# EAGLE library part TPA3107D2 (library Audio-Power-amlifier V.2.0)
15-W STEREO CLASS-D AUDIO POWER AMPLIFIER
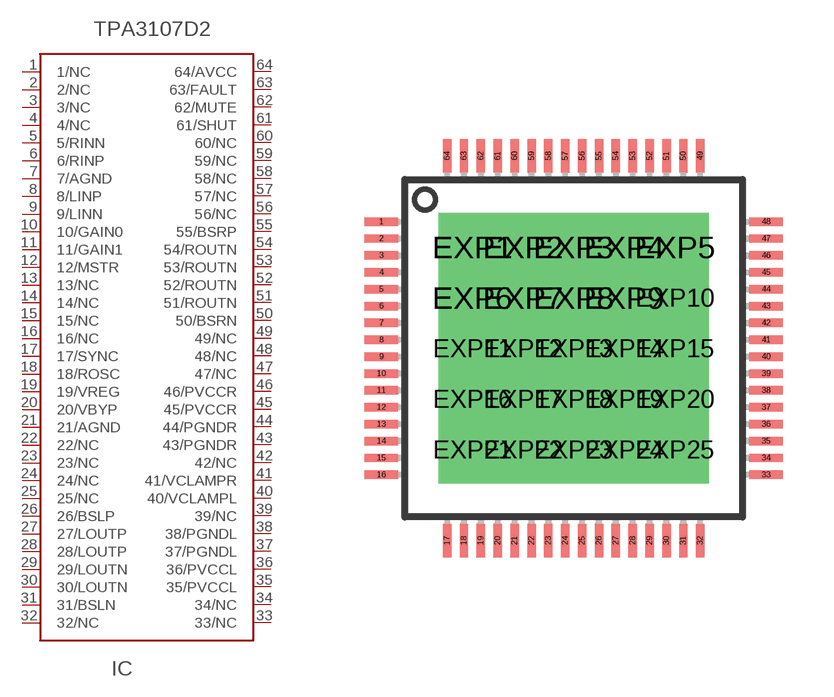
[diagram p177: symbol with the pads of HTQFP-64-PAP; footprint HTQFP-64-PAP]

Designator prefix IC

## TPA3107D2  [HTQFP-64-PAP]
1  1/NC  nc
2  2/NC  nc
3  3/NC  nc
4  4/NC  nc
5  5/RINN  in
6  6/RINP  in
7  7/AGND  pwr
8  8/LINP  in
9  9/LINN  in
10  10/GAIN0  in
11  11/GAIN1  in
12  12/MSTR  in
13  13/NC  nc
14  14/NC  nc
15  15/NC  nc
16  16/NC  nc
17  17/SYNC
18  18/ROSC
19  19/VREG  out
20  20/VBYP  out
21  21/AGND  pwr
22  22/NC  nc
23  23/NC  nc
24  24/NC  nc
25  25/NC  nc
26  26/BSLP
27  27/LOUTP  out
28  28/LOUTP  out
29  29/LOUTN  out
30  30/LOUTN  out
31  31/BSLN
32  32/NC  nc
33  33/NC  nc
34  34/NC  nc
35  35/PVCCL  pwr
36  36/PVCCL  pwr
37  37/PGNDL  pwr
38  38/PGNDL  pwr
39  39/NC  nc
40  40/VCLAMPL  pwr
41  41/VCLAMPR  pwr
42  42/NC  nc
43  43/PGNDR  pwr
44  44/PGNDR  pwr
45  45/PVCCR  pwr
46  46/PVCCR  pwr
47  47/NC  nc
48  48/NC  nc
49  49/NC  nc
50  50/BSRN
51  51/ROUTN  out
52  52/ROUTN  out
53  53/ROUTN  out
54  54/ROUTN  out
55  55/BSRP
56  56/NC  nc
57  57/NC  nc
58  58/NC  nc
59  59/NC  nc
60  60/NC  nc
61  61/SHUT  in
62  62/MUTE  in
63  63/FAULT  out
64  64/AVCC  pwr

## Footprint HTQFP-64-PAP (pad centres in mm)
PAP (S-PQFP-G46) PowerPAD Package Source: http://focus.ti.com/lit/ds/symlink/ads1274.pdf www.ti.com .. slma002.pdf
smd 1 x 0.25: 1 -5.7,3.75; 2 -5.7,3.25; 3 -5.7,2.75; 4 -5.7,2.25; 5 -5.7,1.75; 6 -5.7,1.25; 7 -5.7,0.75; 8 -5.7,0.25; 9 -5.7,-0.25; 10 -5.7,-0.75; 11 -5.7,-1.25; 12 -5.7,-1.75; 13 -5.7,-2.25; 14 -5.7,-2.75; 15 -5.7,-3.25; 16 -5.7,-3.75; 33 5.7,-3.75; 34 5.7,-3.25; 35 5.7,-2.75; 36 5.7,-2.25; 37 5.7,-1.75; 38 5.7,-1.25; 39 5.7,-0.75; 40 5.7,-0.25; 41 5.7,0.25; 42 5.7,0.75; 43 5.7,1.25; 44 5.7,1.75; 45 5.7,2.25; 46 5.7,2.75; 47 5.7,3.25; 48 5.7,3.75
smd 0.25 x 1: 17 -3.75,-5.7; 18 -3.25,-5.7; 19 -2.75,-5.7; 20 -2.25,-5.7; 21 -1.75,-5.7; 22 -1.25,-5.7; 23 -0.75,-5.7; 24 -0.25,-5.7; 25 0.25,-5.7; 26 0.75,-5.7; 27 1.25,-5.7; 28 1.75,-5.7; 29 2.25,-5.7; 30 2.75,-5.7; 31 3.25,-5.7; 32 3.75,-5.7; 49 3.75,5.7; 50 3.25,5.7; 51 2.75,5.7; 52 2.25,5.7; 53 1.75,5.7; 54 1.25,5.7; 55 0.75,5.7; 56 0.25,5.7; 57 -0.25,5.7; 58 -0.75,5.7; 59 -1.25,5.7; 60 -1.75,5.7; 61 -2.25,5.7; 62 -2.75,5.7; 63 -3.25,5.7; 64 -3.75,5.7
drill 0.3 pad 2 square: EXP1 -3,3; EXP2 -1.5,3; EXP3 0,3; EXP4 1.5,3; EXP5 3,3; EXP6 -3,1.5; EXP7 -1.5,1.5; EXP8 0,1.5; EXP9 1.5,1.5; EXP10 3,1.5; EXP11 -3,0; EXP12 -1.5,0; EXP13 0,0; EXP14 1.5,0; EXP15 3,0; EXP16 -3,-1.5; EXP17 -1.5,-1.5; EXP18 0,-1.5; EXP19 1.5,-1.5; EXP20 3,-1.5; EXP21 -3,-3; EXP22 -1.5,-3; EXP23 0,-3; EXP24 1.5,-3; EXP25 3,-3